# Altium schematic symbol library Schlib1.SchLib: 16 symbols
Pins are listed as number, name and electrical type; pins without a type are passive.

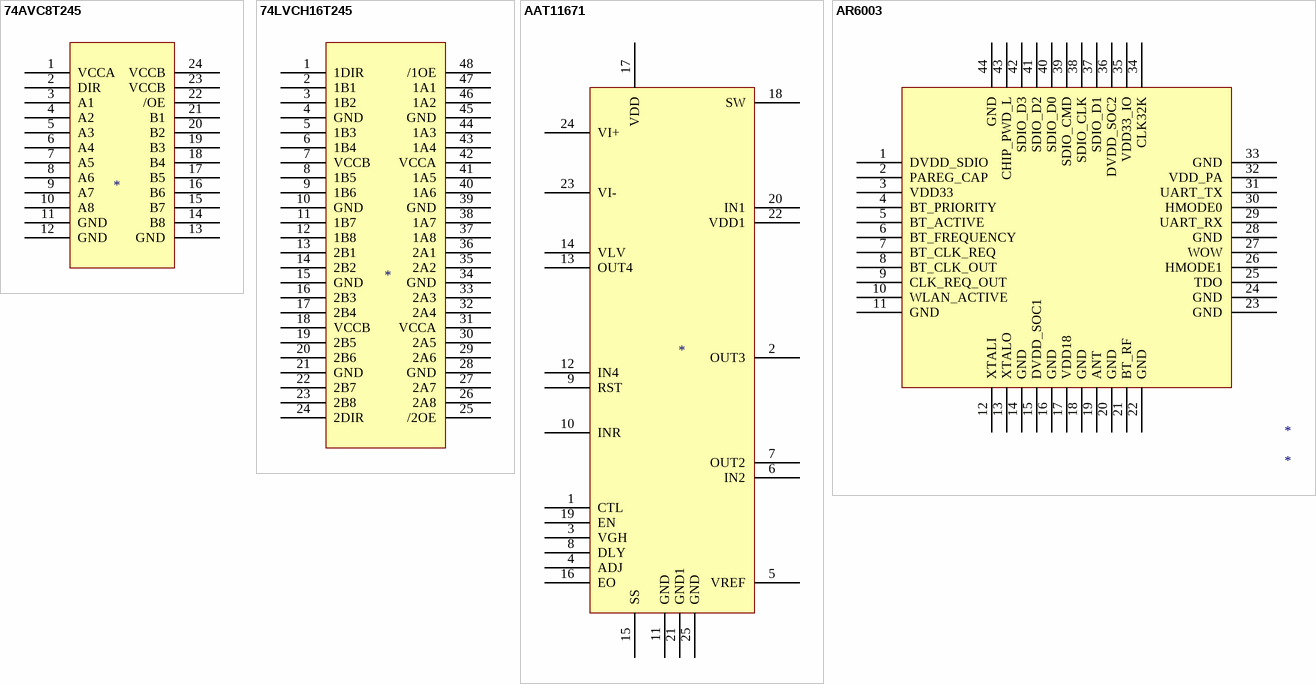
[diagram p0: symbols 74AVC8T245 to AR6003]

## 74AVC8T245
designator *
pins: 1 VCCA, 2 DIR, 3 A1, 4 A2, 5 A3, 6 A4, 7 A5, 8 A6, 9 A7, 10 A8, 11 GND, 12 GND, 13 GND, 14 B8, 15 B7, 16 B6, 17 B5, 18 B4, 19 B3, 20 B2, 21 B1, 22 /OE, 23 VCCB, 24 VCCB

## 74LVCH16T245
designator *
pins: 1 1DIR, 2 1B1, 3 1B2, 4 GND, 5 1B3, 6 1B4, 7 VCCB, 8 1B5, 9 1B6, 10 GND, 11 1B7, 12 1B8, 13 2B1, 14 2B2, 15 GND, 16 2B3, 17 2B4, 18 VCCB, 19 2B5, 20 2B6, 21 GND, 22 2B7, 23 2B8, 24 2DIR, 25 /2OE, 26 2A8, 27 2A7, 28 GND, 29 2A6, 30 2A5, 31 VCCA, 32 2A4, 33 2A3, 34 GND, 35 2A2, 36 2A1, 37 1A8, 38 1A7, 39 GND, 40 1A6, 41 1A5, 42 VCCA, 43 1A4, 44 1A3, 45 GND, 46 1A2, 47 1A1, 48 /1OE

## AAT11671
designator *
pins: 1 CTL, 2 OUT3, 3 VGH, 4 ADJ, 5 VREF, 6 IN2, 7 OUT2, 8 DLY, 9 RST, 10 INR, 11 GND, 12 IN4, 13 OUT4, 14 VLV, 15 SS, 16 EO, 17 VDD, 18 SW, 19 EN, 20 IN1, 21 GND1, 22 VDD1, 23 VI-, 24 VI+, 25 GND

## AR6003
designator *
pins: 1 DVDD_SDIO, 2 PAREG_CAP, 3 VDD33, 4 BT_PRIORITY, 5 BT_ACTIVE, 6 BT_FREQUENCY, 7 BT_CLK_REQ, 8 BT_CLK_OUT, 9 CLK_REQ_OUT, 10 WLAN_ACTIVE, 11 GND, 12 XTALI, 13 XTALO, 14 GND, 15 DVDD_SOC1, 16 GND, 17 VDD18, 18 GND, 19 ANT, 20 GND, 21 BT_RF, 22 GND, 23 GND, 24 GND, 25 TDO, 26 HMODE1, 27 WOW, 28 GND, 29 UART_RX, 30 HMODE0, 31 UART_TX, 32 VDD_PA, 33 GND, 34 CLK32K, 35 VDD33_IO, 36 DVDD_SOC2, 37 SDIO_D1, 38 SDIO_CLK, 39 SDIO_CMD, 40 SDIO_D0, 41 SDIO_D2, 42 SDIO_D3, 43 CHIP_PWD_L, 44 GND

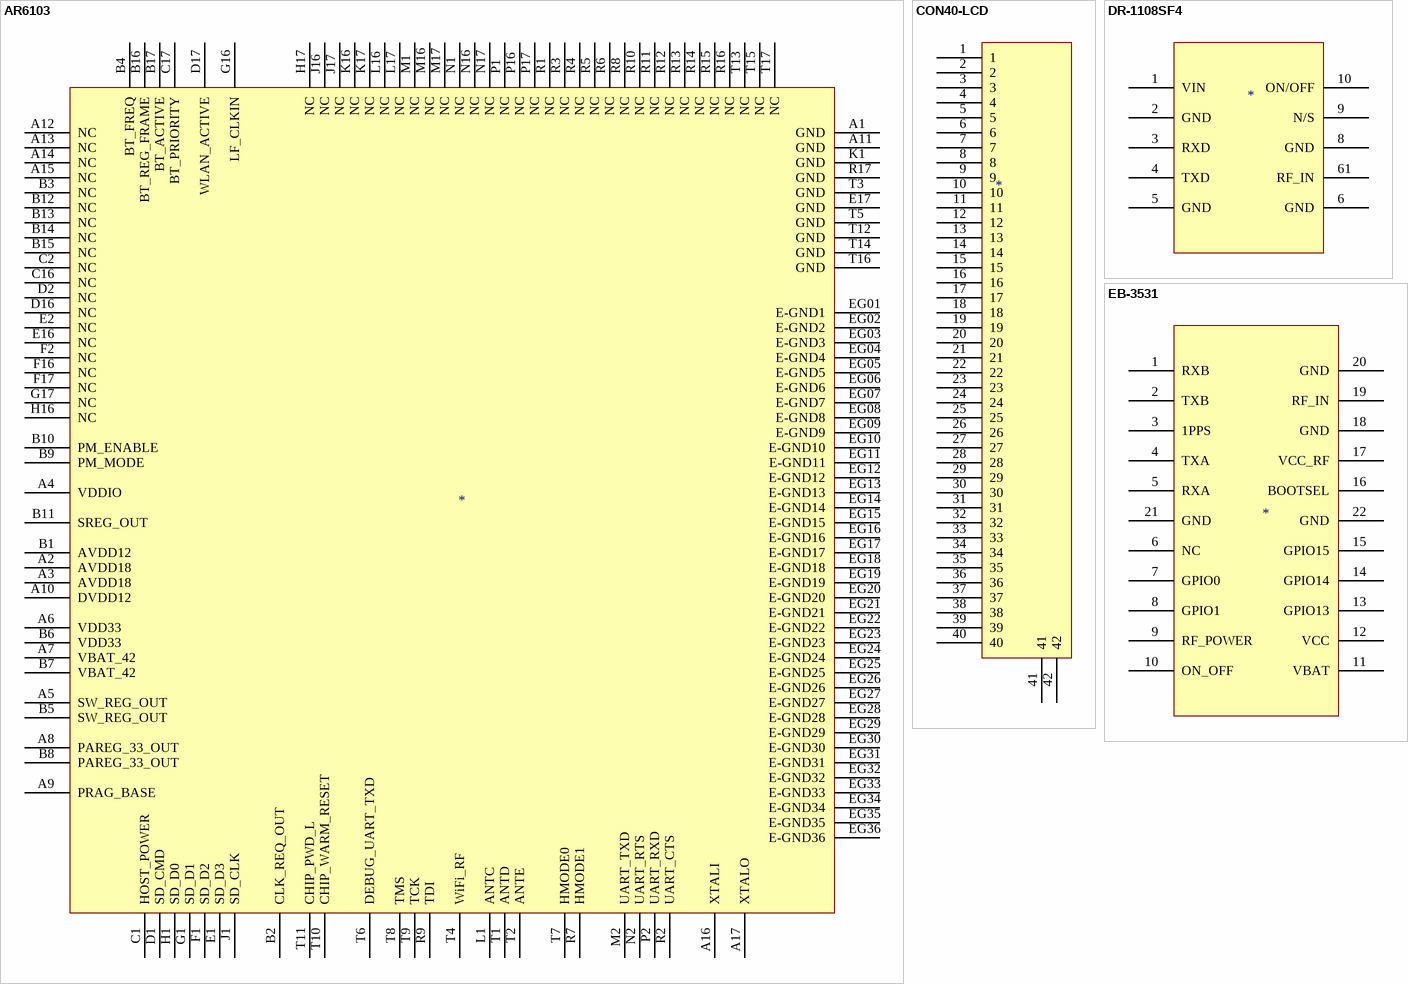
[diagram p1: symbols AR6103 to EB-3531]

## AR6103
designator *
pins: A1 GND, A2 AVDD18, A3 AVDD18, A4 VDDIO, A5 SW_REG_OUT, A6 VDD33, A7 VBAT_42, A8 PAREG_33_OUT, A9 PRAG_BASE, A10 DVDD12, A11 GND, A12 NC, A13 NC, A14 NC, A15 NC, A16 XTALI, A17 XTALO, B1 AVDD12, B2 CLK_REQ_OUT, B3 NC, B4 BT_FREQ, B5 SW_REG_OUT, B6 VDD33, B7 VBAT_42, B8 PAREG_33_OUT, B9 PM_MODE, B10 PM_ENABLE, B11 SREG_OUT, B12 NC, B13 NC, B14 NC, B15 NC, B16 BT_REG_FRAME, B17 BT_ACTIVE, C1 HOST_POWER, C2 NC, C16 NC, C17 BT_PRIORITY, D1 SD_CMD, D2 NC, D16 NC, D17 WLAN_ACTIVE, E1 SD_D3, E2 NC, E16 NC, E17 GND, EG01 E-GND1, EG02 E-GND2, EG03 E-GND3, EG04 E-GND4, EG05 E-GND5, EG06 E-GND6, EG07 E-GND7, EG08 E-GND8, EG09 E-GND9, EG10 E-GND10, EG11 E-GND11, EG12 E-GND12, EG13 E-GND13, EG14 E-GND14, EG15 E-GND15, EG16 E-GND16, EG17 E-GND17, EG18 E-GND18, EG19 E-GND19, EG20 E-GND20, EG21 E-GND21, EG22 E-GND22, EG23 E-GND23, EG24 E-GND24, EG25 E-GND25, EG26 E-GND26, EG27 E-GND27, EG28 E-GND28, EG29 E-GND29, EG30 E-GND30, EG31 E-GND31, EG32 E-GND32, EG33 E-GND33, EG34 E-GND34, EG35 E-GND35, EG36 E-GND36, F1 SD_D2, F2 NC, F16 NC, F17 NC, G1 SD_D1, G16 LF_CLKIN, G17 NC, H1 SD_D0, H16 NC, H17 NC, J1 SD_CLK, J16 NC, J17 NC, K1 GND, K16 NC, K17 NC, L1 ANTC, L16 NC, L17 NC, M1 NC, M2 UART_TXD, M16 NC, M17 NC, N1 NC, N2 UART_RTS, N16 NC, N17 NC, P1 NC, P2 UART_RXD, P16 NC, P17 NC, R1 NC, R2 UART_CTS, R3 NC, R4 NC, R5 NC, R6 NC, R7 HMODE1, R8 NC, R9 TDI, R10 NC, R11 NC, R12 NC, R13 NC, R14 NC, R15 NC, R16 NC, R17 GND, T1 ANTD, T2 ANTE, T3 GND, T4 WiFi_RF, T5 GND, T6 DEBUG_UART_TXD, T7 HMODE0, T8 TMS, T9 TCK, T10 CHIP_WARM_RESET, T11 CHIP_PWD_L, T12 GND, T13 NC, T14 GND, T15 NC, T16 GND, T17 NC

## CON40-LCD
designator *
pins: 1, 2, 3, 4, 5, 6, 7, 8, 9, 10, 11, 12, 13, 14, 15, 16, 17, 18, 19, 20, 21, 22, 23, 24, 25, 26, 27, 28, 29, 30, 31, 32, 33, 34, 35, 36, 37, 38, 39, 40, 41, 42

## DR-1108SF4
designator *
pins: 1 VIN, 2 GND, 3 RXD, 4 TXD, 5 GND, 6 GND, 8 GND, 9 N/S, 10 ON/OFF, 61 RF_IN

## EB-3531
designator *
pins: 1 RXB, 2 TXB, 3 1PPS, 4 TXA, 5 RXA, 6 NC, 7 GPIO0, 8 GPIO1, 9 RF_POWER, 10 ON_OFF, 11 VBAT, 12 VCC, 13 GPIO13, 14 GPIO14, 15 GPIO15, 16 BOOTSEL, 17 VCC_RF, 18 GND, 19 RF_IN, 20 GND, 21 GND, 22 GND

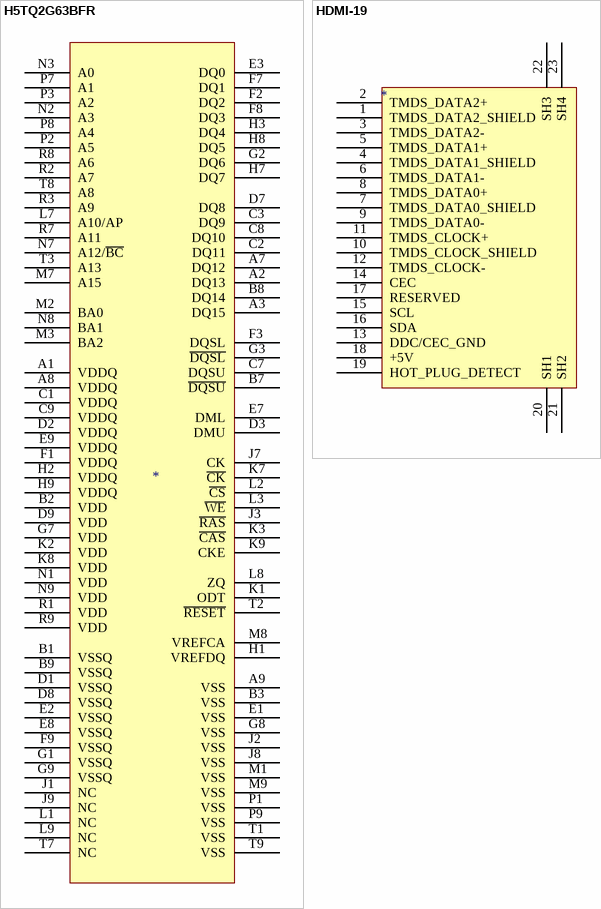
[diagram p2: symbols H5TQ2G63BFR to HDMI-19]

## H5TQ2G63BFR
designator *
pins: A1 VDDQ, A2 DQ13, A3 DQ15, A7 DQ12, A8 VDDQ, A9 VSS, B1 VSSQ, B2 VDD, B3 VSS, B7 ~{DQSU}, B8 DQ14, B9 VSSQ, C1 VDDQ, C2 DQ11, C3 DQ9, C7 DQSU, C8 DQ10, C9 VDDQ, D1 VSSQ, D2 VDDQ, D3 DMU, D7 DQ8, D8 VSSQ, D9 VDD, E1 VSS, E2 VSSQ, E3 DQ0, E7 DML, E8 VSSQ, E9 VDDQ, F1 VDDQ, F2 DQ2, F3 DQSL, F7 DQ1, F8 DQ3, F9 VSSQ, G1 VSSQ, G2 DQ6, G3 ~{DQSL}, G7 VDD, G8 VSS, G9 VSSQ, H1 VREFDQ, H2 VDDQ, H3 DQ4, H7 DQ7, H8 DQ5, H9 VDDQ, J1 NC, J2 VSS, J3 ~{RAS}, J7 CK, J8 VSS, J9 NC, K1 ODT, K2 VDD, K3 ~{CAS}, K7 ~{CK}, K8 VDD, K9 CKE, L1 NC, L2 ~{CS}, L3 ~{WE}, L7 A10/AP, L8 ZQ, L9 NC, M1 VSS, M2 BA0, M3 BA2, M7 A15, M8 VREFCA, M9 VSS, N1 VDD, N2 A3, N3 A0, N7 A12/~{BC}, N8 BA1, N9 VDD, P1 VSS, P2 A5, P3 A2, P7 A1, P8 A4, P9 VSS, R1 VDD, R2 A7, R3 A9, R7 A11, R8 A6, R9 VDD, T1 VSS, T2 ~{RESET}, T3 A13, T7 NC, T8 A8, T9 VSS

## HDMI-19
designator *
pins: 1 TMDS_DATA2_SHIELD, 2 TMDS_DATA2+, 3 TMDS_DATA2-, 4 TMDS_DATA1_SHIELD, 5 TMDS_DATA1+, 6 TMDS_DATA1-, 7 TMDS_DATA0_SHIELD, 8 TMDS_DATA0+, 9 TMDS_DATA0-, 10 TMDS_CLOCK_SHIELD, 11 TMDS_CLOCK+, 12 TMDS_CLOCK-, 13 DDC/CEC_GND, 14 CEC, 15 SCL, 16 SDA, 17 RESERVED, 18 +5V, 19 HOT_PLUG_DETECT, 20 SH1, 21 SH2, 22 SH3, 23 SH4

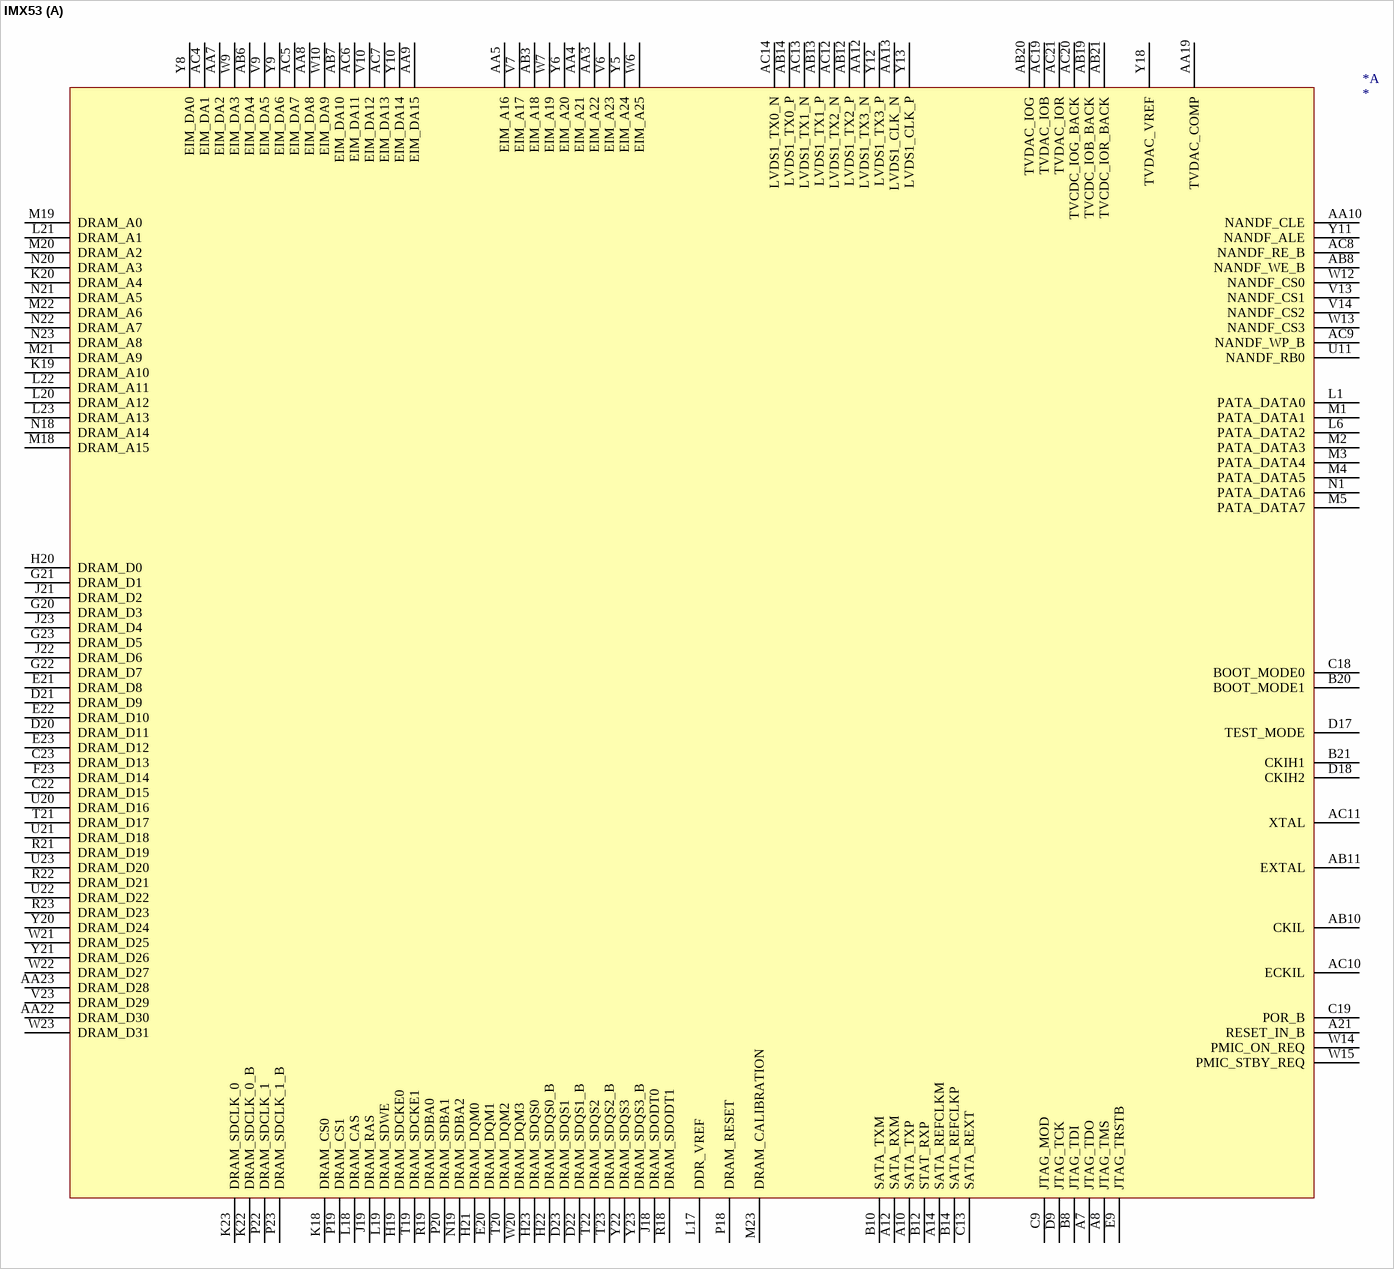
[diagram p3: symbol IMX53]

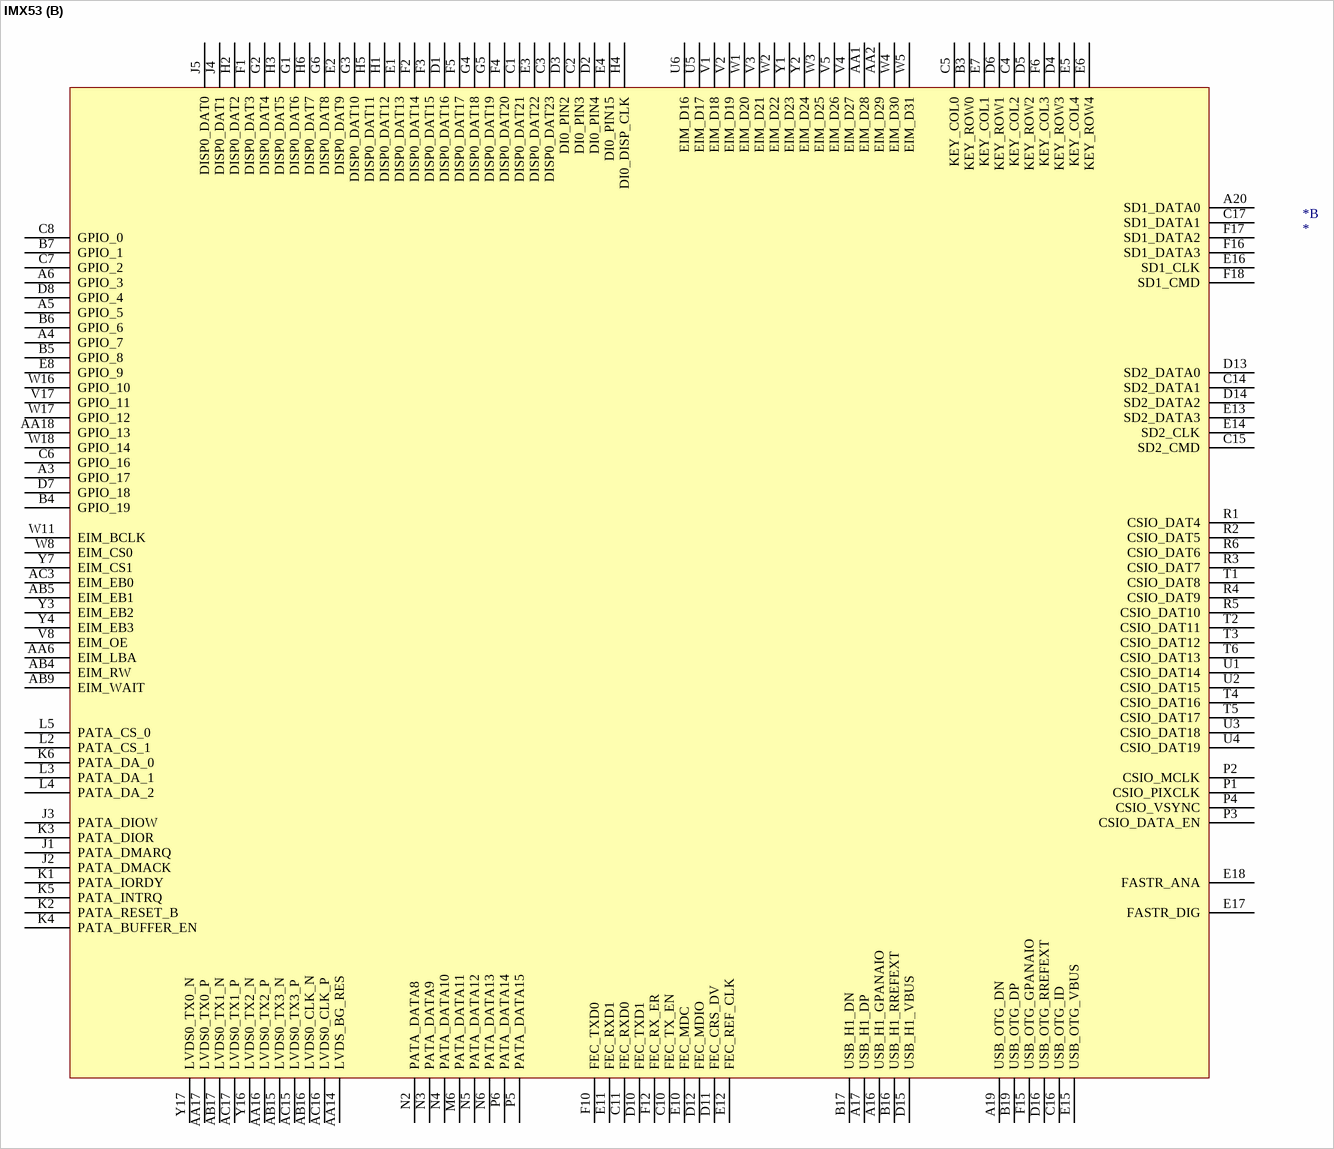
[diagram p4: symbol IMX53]

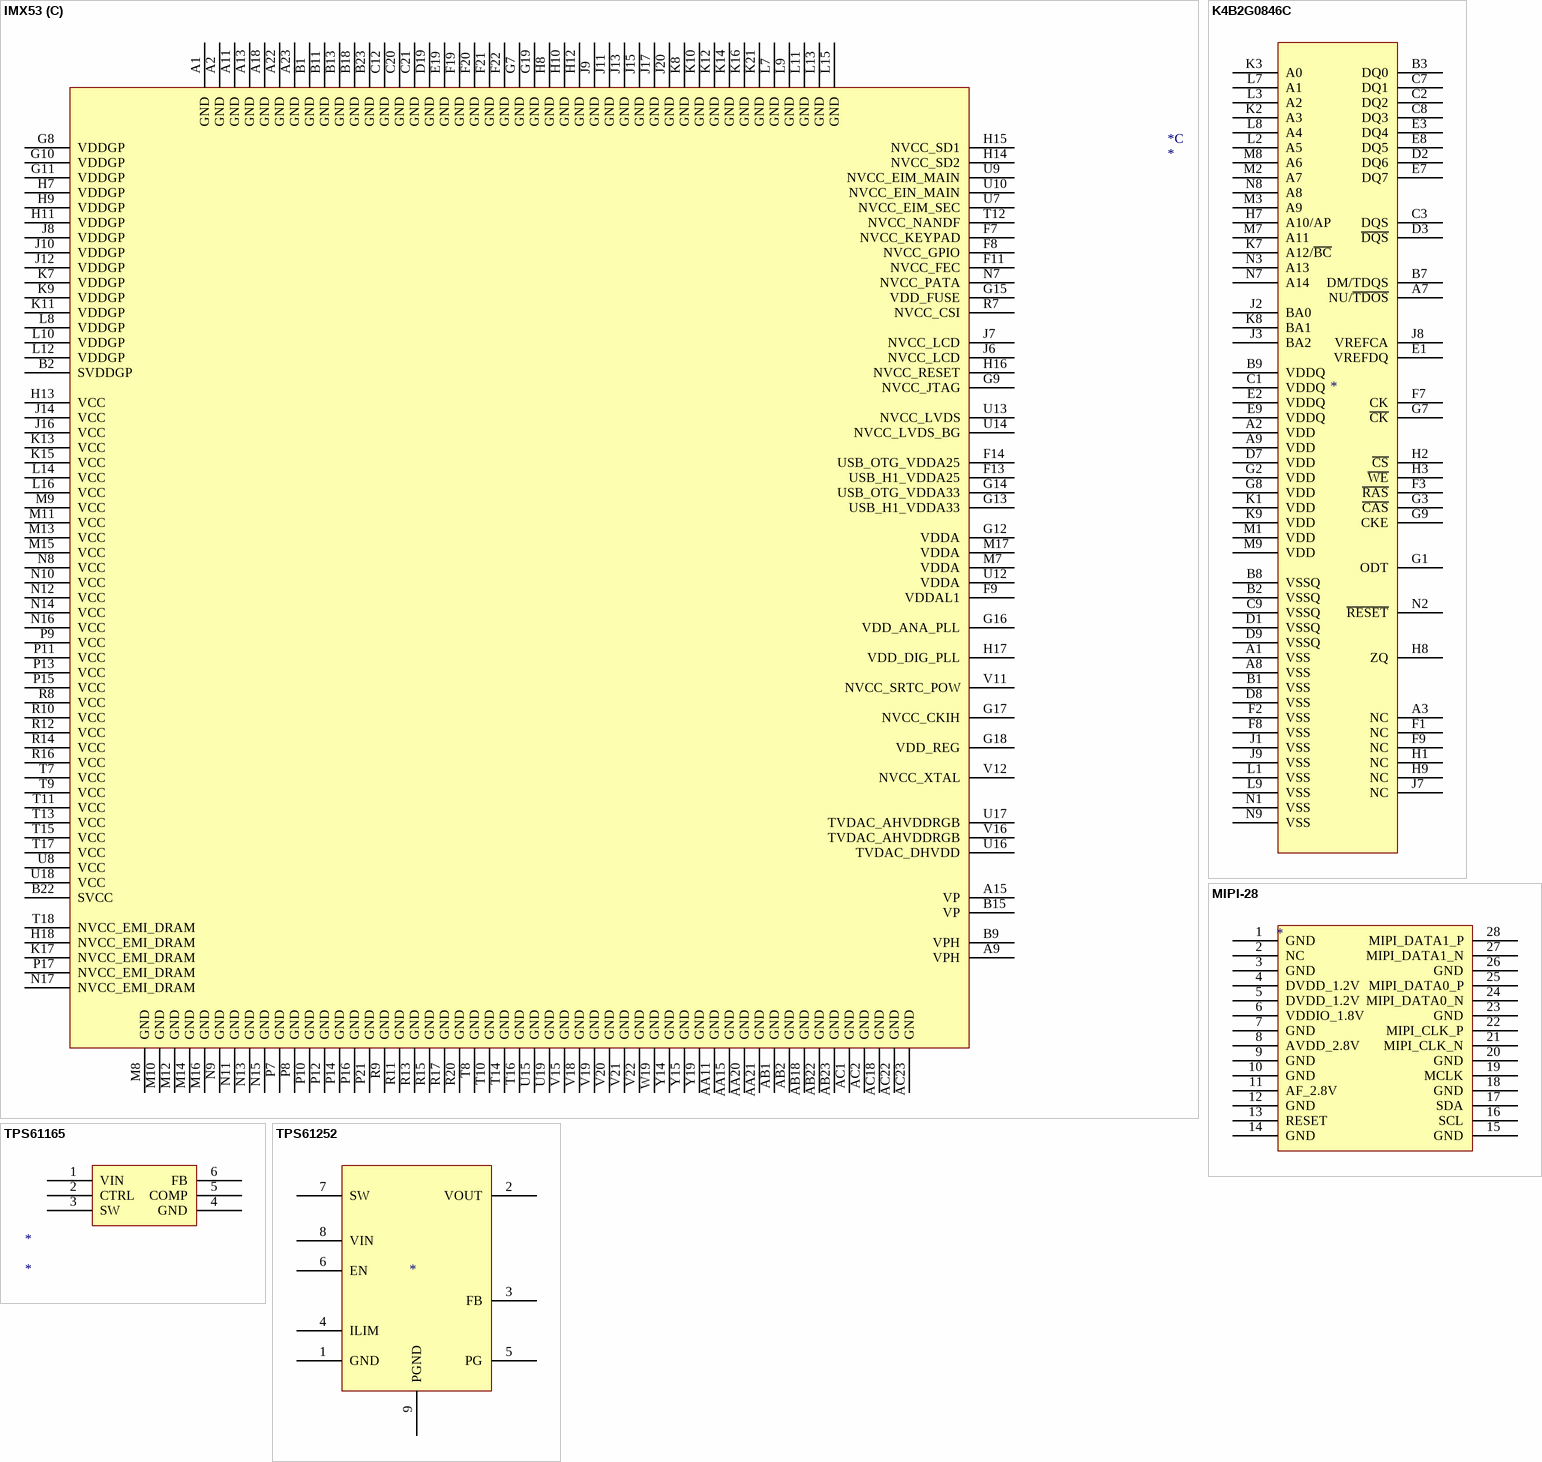
[diagram p5: symbols IMX53 to TPS61252]

## IMX53
designator *
part A pins: A7 JTAG_TDO, A8 JTAG_TMS, A10 SATA_TXP, A12 SATA_RXM, A14 SATA_REFCLKM, A21 RESET_IN_B, AA3 EIM_A22, AA4 EIM_A21, AA5 EIM_A16, AA7 EIM_DA2, AA8 EIM_DA8, AA9 EIM_DA15, AA10 NANDF_CLE, AA12 LVDS1_TX3_N, AA13 LVDS1_CLK_N, AA19 TVDAC_COMP, AA22 DRAM_D30, AA23 DRAM_D28, AB3 EIM_A18, AB6 EIM_DA4, AB7 EIM_DA10, AB8 NANDF_WE_B, AB10 CKIL, AB11 EXTAL, AB12 LVDS1_TX2_P, AB13 LVDS1_TX1_P, AB14 LVDS1_TX0_P, AB19 TVCDC_IOB_BACK, AB20 TVDAC_IOG, AB21 TVCDC_IOR_BACK, AC4 EIM_DA1, AC5 EIM_DA7, AC6 EIM_DA11, AC7 EIM_DA13, AC8 NANDF_RE_B, AC9 NANDF_WP_B, AC10 ECKIL, AC11 XTAL, AC12 LVDS1_TX2_N, AC13 LVDS1_TX1_N, AC14 LVDS1_TX0_N, AC19 TVDAC_IOB, AC20 TVCDC_IOG_BACK, AC21 TVDAC_IOR, B8 JTAG_TDI, B10 SATA_TXM, B12 STAT_RXP, B14 SATA_REFCLKP, B20 BOOT_MODE1, B21 CKIH1, C9 JTAG_MOD, C13 SATA_REXT, C18 BOOT_MODE0, C19 POR_B, C22 DRAM_D15, C23 DRAM_D13, D9 JTAG_TCK, D17 TEST_MODE, D18 CKIH2, D20 DRAM_D11, D21 DRAM_D9, D22 DRAM_SDQS1_B, D23 DRAM_SDQS1, E9 JTAG_TRSTB, E20 DRAM_DQM1, E21 DRAM_D8, E22 DRAM_D10, E23 DRAM_D12, F23 DRAM_D14, G20 DRAM_D3, G21 DRAM_D1, G22 DRAM_D7, G23 DRAM_D5, H19 DRAM_SDCKE0, H20 DRAM_D0, H21 DRAM_DQM0, H22 DRAM_SDQS0_B, H23 DRAM_SDQS0, J18 DRAM_SDODT0, J19 DRAM_RAS, J21 DRAM_D2, J22 DRAM_D6, J23 DRAM_D4, K18 DRAM_CS0, K19 DRAM_A10, K20 DRAM_A4, K22 DRAM_SDCLK_0_B, K23 DRAM_SDCLK_0, L1 PATA_DATA0, L6 PATA_DATA2, L17 DDR_VREF, L18 DRAM_CAS, L19 DRAM_SDWE, L20 DRAM_A12, L21 DRAM_A1, L22 DRAM_A11, L23 DRAM_A13, M1 PATA_DATA1, M2 PATA_DATA3, M3 PATA_DATA4, M4 PATA_DATA5, M5 PATA_DATA7, M18 DRAM_A15, M19 DRAM_A0, M20 DRAM_A2, M21 DRAM_A9, M22 DRAM_A6, M23 DRAM_CALIBRATION, N1 PATA_DATA6, N18 DRAM_A14, N19 DRAM_SDBA2, N20 DRAM_A3, N21 DRAM_A5, N22 DRAM_A7, N23 DRAM_A8, P18 DRAM_RESET, P19 DRAM_CS1, P20 DRAM_SDBA1, P22 DRAM_SDCLK_1, P23 DRAM_SDCLK_1_B, R18 DRAM_SDODT1, R19 DRAM_SDBA0, R21 DRAM_D19, R22 DRAM_D21, R23 DRAM_D23, T19 DRAM_SDCKE1, T20 DRAM_DQM2, T21 DRAM_D17, T22 DRAM_SDQS2, T23 DRAM_SDQS2_B, U11 NANDF_RB0, U20 DRAM_D16, U21 DRAM_D18, U22 DRAM_D22, U23 DRAM_D20, V6 EIM_A23, V7 EIM_A17, V9 EIM_DA5, V10 EIM_DA12, V13 NANDF_CS1, V14 NANDF_CS2, V23 DRAM_D29, W6 EIM_A25, W7 EIM_A19, W9 EIM_DA3, W10 EIM_DA9, W12 NANDF_CS0, W13 NANDF_CS3, W14 PMIC_ON_REQ, W15 PMIC_STBY_REQ, W20 DRAM_DQM3, W21 DRAM_D25, W22 DRAM_D27, W23 DRAM_D31, Y5 EIM_A24, Y6 EIM_A20, Y8 EIM_DA0, Y9 EIM_DA6, Y10 EIM_DA14, Y11 NANDF_ALE, Y12 LVDS1_TX3_P, Y13 LVDS1_CLK_P, Y18 TVDAC_VREF, Y20 DRAM_D24, Y21 DRAM_D26, Y22 DRAM_SDQS3, Y23 DRAM_SDQS3_B
part B pins: A3 GPIO_17, A4 GPIO_7, A5 GPIO_5, A6 GPIO_3, A16 USB_H1_GPANAIO, A17 USB_H1_DP, A19 USB_OTG_DN, A20 SD1_DATA0, AA1 EIM_D28, AA2 EIM_D29, AA6 EIM_LBA, AA14 LVDS_BG_RES, AA16 LVDS0_TX2_P, AA17 LVDS0_TX0_P, AA18 GPIO_13, AB4 EIM_RW, AB5 EIM_EB1, AB9 EIM_WAIT, AB15 LVDS0_TX3_N, AB16 LVDS0_CLK_N, AB17 LVDS0_TX1_N, AC3 EIM_EB0, AC15 LVDS0_TX3_P, AC16 LVDS0_CLK_P, AC17 LVDS0_TX1_P, B3 KEY_ROW0, B4 GPIO_19, B5 GPIO_8, B6 GPIO_6, B7 GPIO_1, B16 USB_H1_RREFEXT, B17 USB_H1_DN, B19 USB_OTG_DP, C1 DISP0_DAT21, C2 DI0_PIN3, C3 DISP0_DAT23, C4 KEY_COL2, C5 KEY_COL0, C6 GPIO_16, C7 GPIO_2, C8 GPIO_0, C10 FEC_TX_EN, C11 FEC_RXD0, C14 SD2_DATA1, C15 SD2_CMD, C16 USB_OTG_ID, C17 SD1_DATA1, D1 DISP0_DAT16, D2 DI0_PIN4, D3 DI0_PIN2, D4 KEY_ROW3, D5 KEY_ROW2, D6 KEY_ROW1, D7 GPIO_18, D8 GPIO_4, D10 FEC_TXD1, D11 FEC_CRS_DV, D12 FEC_MDIO, D13 SD2_DATA0, D14 SD2_DATA2, D15 USB_H1_VBUS, D16 USB_OTG_RREFEXT, E1 DISP0_DAT13, E2 DISP0_DAT9, E3 DISP0_DAT22, E4 DI0_PIN15, E5 KEY_COL4, E6 KEY_ROW4, E7 KEY_COL1, E8 GPIO_9, E10 FEC_MDC, E11 FEC_RXD1, E12 FEC_REF_CLK, E13 SD2_DATA3, E14 SD2_CLK, E15 USB_OTG_VBUS, E16 SD1_CLK, E17 FASTR_DIG, E18 FASTR_ANA, F1 DISP0_DAT3, F2 DISP0_DAT14, F3 DISP0_DAT15, F4 DISP0_DAT20, F5 DISP0_DAT17, F6 KEY_COL3, F10 FEC_TXD0, F12 FEC_RX_ER, F15 USB_OTG_GPANAIO, F16 SD1_DATA3, F17 SD1_DATA2, F18 SD1_CMD, G1 DISP0_DAT6, G2 DISP0_DAT4, G3 DISP0_DAT10, G4 DISP0_DAT18, G5 DISP0_DAT19, G6 DISP0_DAT8, H1 DISP0_DAT12, H2 DISP0_DAT2, H3 DISP0_DAT5, H4 DI0_DISP_CLK, H5 DISP0_DAT11, H6 DISP0_DAT7, J1 PATA_DMARQ, J2 PATA_DMACK, J3 PATA_DIOW, J4 DISP0_DAT1, J5 DISP0_DAT0, K1 PATA_IORDY, K2 PATA_RESET_B, K3 PATA_DIOR, K4 PATA_BUFFER_EN, K5 PATA_INTRQ, K6 PATA_DA_0, L2 PATA_CS_1, L3 PATA_DA_1, L4 PATA_DA_2, L5 PATA_CS_0, M6 PATA_DATA11, N2 PATA_DATA8, N3 PATA_DATA9, N4 PATA_DATA10, N5 PATA_DATA12, N6 PATA_DATA13, P1 CSIO_PIXCLK, P2 CSIO_MCLK, P3 CSIO_DATA_EN, P4 CSIO_VSYNC, P5 PATA_DATA15, P6 PATA_DATA14, R1 CSIO_DAT4, R2 CSIO_DAT5, R3 CSIO_DAT7, R4 CSIO_DAT9, R5 CSIO_DAT10, R6 CSIO_DAT6, T1 CSIO_DAT8, T2 CSIO_DAT11, T3 CSIO_DAT12, T4 CSIO_DAT16, T5 CSIO_DAT17, T6 CSIO_DAT13, U1 CSIO_DAT14, U2 CSIO_DAT15, U3 CSIO_DAT18, U4 CSIO_DAT19, U5 EIM_D17, U6 EIM_D16, V1 EIM_D18, V2 EIM_D19, V3 EIM_D21, V4 EIM_D27, V5 EIM_D26, V8 EIM_OE, V17 GPIO_11, W1 EIM_D20, W2 EIM_D22, W3 EIM_D25, W4 EIM_D30, W5 EIM_D31, W8 EIM_CS0, W11 EIM_BCLK, W16 GPIO_10, W17 GPIO_12, W18 GPIO_14, Y1 EIM_D23, Y2 EIM_D24, Y3 EIM_EB2, Y4 EIM_EB3, Y7 EIM_CS1, Y16 LVDS0_TX2_N, Y17 LVDS0_TX0_N
part C pins: A1 GND, A2 GND, A9 VPH, A11 GND, A13 GND, A15 VP, A18 GND, A22 GND, A23 GND, AA11 GND, AA15 GND, AA20 GND, AA21 GND, AB1 GND, AB2 GND, AB18 GND, AB22 GND, AB23 GND, AC1 GND, AC2 GND, AC18 GND, AC22 GND, AC23 GND, B1 GND, B2 SVDDGP, B9 VPH, B11 GND, B13 GND, B15 VP, B18 GND, B22 SVCC, B23 GND, C12 GND, C20 GND, C21 GND, D19 GND, E19 GND, F7 NVCC_KEYPAD, F8 NVCC_GPIO, F9 VDDAL1, F11 NVCC_FEC, F13 USB_H1_VDDA25, F14 USB_OTG_VDDA25, F19 GND, F20 GND, F21 GND, F22 GND, G7 GND, G8 VDDGP, G9 NVCC_JTAG, G10 VDDGP, G11 VDDGP, G12 VDDA, G13 USB_H1_VDDA33, G14 USB_OTG_VDDA33, G15 VDD_FUSE, G16 VDD_ANA_PLL, G17 NVCC_CKIH, G18 VDD_REG, G19 GND, H7 VDDGP, H8 GND, H9 VDDGP, H10 GND, H11 VDDGP, H12 GND, H13 VCC, H14 NVCC_SD2, H15 NVCC_SD1, H16 NVCC_RESET, H17 VDD_DIG_PLL, H18 NVCC_EMI_DRAM, J6 NVCC_LCD, J7 NVCC_LCD, J8 VDDGP, J9 GND, J10 VDDGP, J11 GND, J12 VDDGP, J13 GND, J14 VCC, J15 GND, J16 VCC, J17 GND, J20 GND, K7 VDDGP, K8 GND, K9 VDDGP, K10 GND, K11 VDDGP, K12 GND, K13 VCC, K14 GND, K15 VCC, K16 GND, K17 NVCC_EMI_DRAM, K21 GND, L7 GND, L8 VDDGP, L9 GND, L10 VDDGP, L11 GND, L12 VDDGP, L13 GND, L14 VCC, L15 GND, L16 VCC, M7 VDDA, M8 GND, M9 VCC, M10 GND, M11 VCC, M12 GND, M13 VCC, M14 GND, M15 VCC, M16 GND, M17 VDDA, N7 NVCC_PATA, N8 VCC, N9 GND, N10 VCC, N11 GND, N12 VCC, N13 GND, N14 VCC, N15 GND, N16 VCC, N17 NVCC_EMI_DRAM, P7 GND, P8 GND, P9 VCC, P10 GND, P11 VCC, P12 GND, P13 VCC, P14 GND, P15 VCC, P16 GND, P17 NVCC_EMI_DRAM, P21 GND, R7 NVCC_CSI, R8 VCC, R9 GND, R10 VCC, R11 GND, R12 VCC, R13 GND, R14 VCC, R15 GND, R16 VCC, R17 GND, R20 GND, T7 VCC, T8 GND, T9 VCC, T10 GND, T11 VCC, T12 NVCC_NANDF, T13 VCC, T14 GND, T15 VCC, T16 GND, T17 VCC, T18 NVCC_EMI_DRAM, U7 NVCC_EIM_SEC, U8 VCC, U9 NVCC_EIM_MAIN, U10 NVCC_EIN_MAIN, U12 VDDA, U13 NVCC_LVDS, U14 NVCC_LVDS_BG, U15 GND, U16 TVDAC_DHVDD, U17 TVDAC_AHVDDRGB, U18 VCC, U19 GND, V11 NVCC_SRTC_POW, V12 NVCC_XTAL, V15 GND, V16 TVDAC_AHVDDRGB, V18 GND, V19 GND, V20 GND, V21 GND, V22 GND, W19 GND, Y14 GND, Y15 GND, Y19 GND

## K4B2G0846C
designator *
pins: A1 VSS, A2 VDD, A3 NC, A7 NU/~{TDOS}, A8 VSS, A9 VDD, B1 VSS, B2 VSSQ, B3 DQ0, B7 DM/TDQS, B8 VSSQ, B9 VDDQ, C1 VDDQ, C2 DQ2, C3 DQS, C7 DQ1, C8 DQ3, C9 VSSQ, D1 VSSQ, D2 DQ6, D3 ~{DQS}, D7 VDD, D8 VSS, D9 VSSQ, E1 VREFDQ, E2 VDDQ, E3 DQ4, E7 DQ7, E8 DQ5, E9 VDDQ, F1 NC, F2 VSS, F3 ~{RAS}, F7 CK, F8 VSS, F9 NC, G1 ODT, G2 VDD, G3 ~{CAS}, G7 ~{CK}, G8 VDD, G9 CKE, H1 NC, H2 ~{CS}, H3 ~{WE}, H7 A10/AP, H8 ZQ, H9 NC, J1 VSS, J2 BA0, J3 BA2, J7 NC, J8 VREFCA, J9 VSS, K1 VDD, K2 A3, K3 A0, K7 A12/~{BC}, K8 BA1, K9 VDD, L1 VSS, L2 A5, L3 A2, L7 A1, L8 A4, L9 VSS, M1 VDD, M2 A7, M3 A9, M7 A11, M8 A6, M9 VDD, N1 VSS, N2 ~{RESET}, N3 A13, N7 A14, N8 A8, N9 VSS

## MIPI-28
designator *
pins: 1 GND, 2 NC, 3 GND, 4 DVDD_1.2V, 5 DVDD_1.2V, 6 VDDIO_1.8V, 7 GND, 8 AVDD_2.8V, 9 GND, 10 GND, 11 AF_2.8V, 12 GND, 13 RESET, 14 GND, 15 GND, 16 SCL, 17 SDA, 18 GND, 19 MCLK, 20 GND, 21 MIPI_CLK_N, 22 MIPI_CLK_P, 23 GND, 24 MIPI_DATA0_N, 25 MIPI_DATA0_P, 26 GND, 27 MIPI_DATA1_N, 28 MIPI_DATA1_P

## TPS61165
designator *
pins: 1 VIN, 2 CTRL, 3 SW, 4 GND, 5 COMP, 6 FB

## TPS61252
designator *
pins: 1 GND, 2 VOUT, 3 FB, 4 ILIM, 5 PG, 6 EN, 7 SW, 8 VIN, 9 PGND

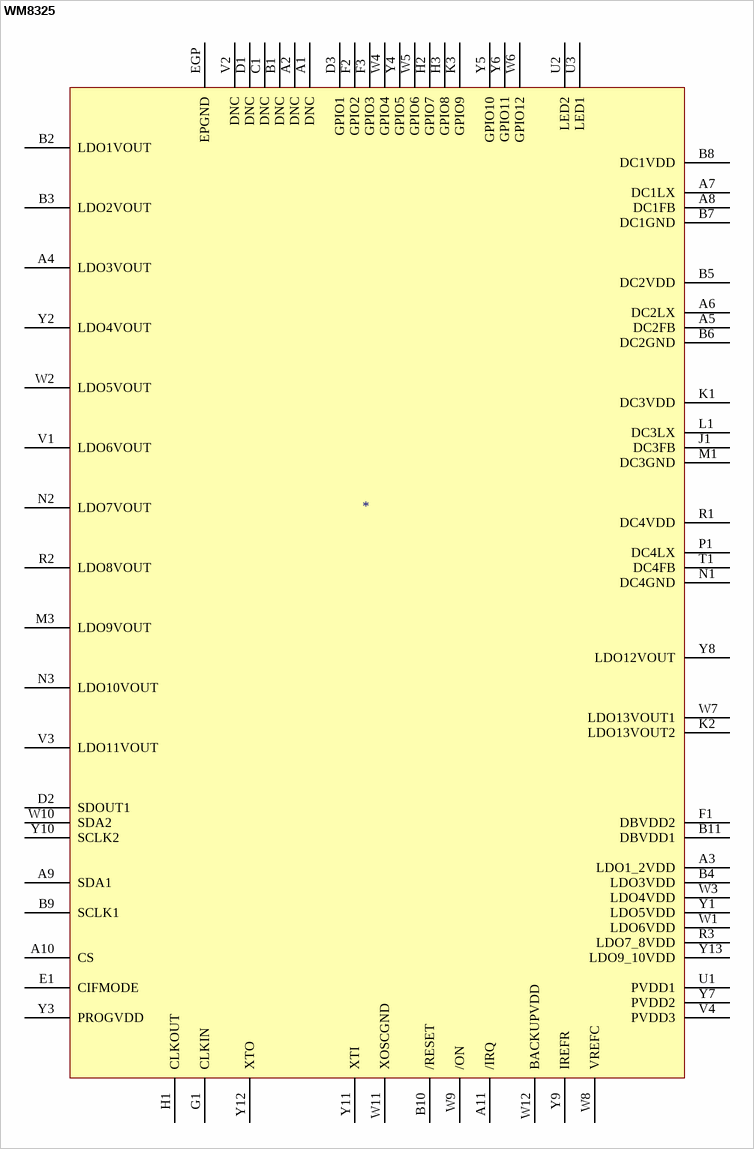
[diagram p6: symbol WM8325]

## WM8325
designator *
pins: A1 DNC, A2 DNC, A3 LDO1_2VDD, A4 LDO3VOUT, A5 DC2FB, A6 DC2LX, A7 DC1LX, A8 DC1FB, A9 SDA1, A10 CS, A11 /IRQ, B1 DNC, B2 LDO1VOUT, B3 LDO2VOUT, B4 LDO3VDD, B5 DC2VDD, B6 DC2GND, B7 DC1GND, B8 DC1VDD, B9 SCLK1, B10 /RESET, B11 DBVDD1, C1 DNC, D1 DNC, D2 SDOUT1, D3 GPIO1, E1 CIFMODE, EGP EPGND, F1 DBVDD2, F2 GPIO2, F3 GPIO3, G1 CLKIN, H1 CLKOUT, H2 GPIO7, H3 GPIO8, J1 DC3FB, K1 DC3VDD, K2 LDO13VOUT2, K3 GPIO9, L1 DC3LX, M1 DC3GND, M3 LDO9VOUT, N1 DC4GND, N2 LDO7VOUT, N3 LDO10VOUT, P1 DC4LX, R1 DC4VDD, R2 LDO8VOUT, R3 LDO7_8VDD, T1 DC4FB, U1 PVDD1, U2 LED2, U3 LED1, V1 LDO6VOUT, V2 DNC, V3 LDO11VOUT, V4 PVDD3, W1 LDO6VDD, W2 LDO5VOUT, W3 LDO4VDD, W4 GPIO4, W5 GPIO6, W6 GPIO12, W7 LDO13VOUT1, W8 VREFC, W9 /ON, W10 SDA2, W11 XOSCGND, W12 BACKUPVDD, Y1 LDO5VDD, Y2 LDO4VOUT, Y3 PROGVDD, Y4 GPIO5, Y5 GPIO10, Y6 GPIO11, Y7 PVDD2, Y8 LDO12VOUT, Y9 IREFR, Y10 SCLK2, Y11 XTI, Y12 XTO, Y13 LDO9_10VDD